# Altium schematic symbol library SCH - POWER - LINEAR VREG - TI LM2940-N-5NGN.SchLib: 1 symbol
Pins are listed as number, name and electrical type; pins without a type are passive.

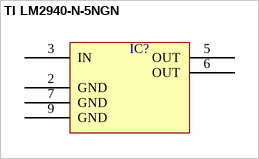
[diagram p0: symbol TI LM2940-N-5NGN]

## TI LM2940-N-5NGN
designator IC?  (value not drawn)
pins: 2 GND, 3 IN, 5 OUT, 6 OUT, 7 GND, 9 GND